# Altium footprint library Passives.PcbLib: 81 footprints (part 6 of 6)
Each footprint in its own frame and in the unit in brackets; x right, y up, seen from the top. Pads: shape width x height; smd on the part's side, far side on the other; paste and mask are expansions set on the pad; w line width, h text height; cw(c..) or ccw(c..) is an arc to the next point about the centre after c.
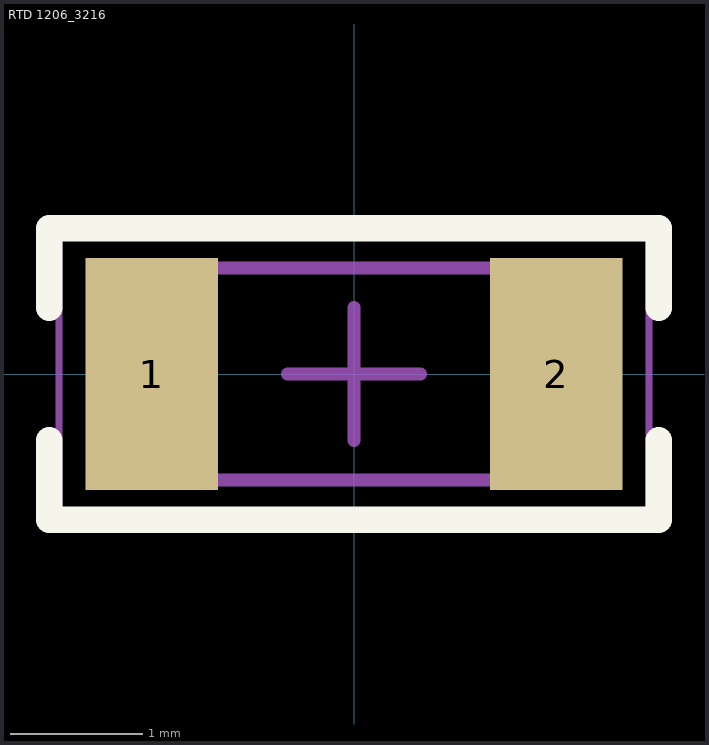
[diagram p5: the footprint, top view; thin cyan lines are the x and y axes]

## RTD 1206_3216 [mm] "100 Ohms RTD Platinum ±0.3% ±3850ppm/°C -50°C ~ 130°C, 2-Leads, Body 3.20x1.60mm, IPC Medium Density"
height 0.6
pads (2):
  rect 1x1.75 smd: 1(-1.525,0) 2(1.525,0)
Top Overlay:
  lines w0.2: -2.3,-0.5 -2.3,-1.1 2.3,-1.1 2.3,-0.5 ; -2.3,0.5 -2.3,1.1 2.3,1.1 2.3,0.5
Mechanical 13:
  lines w0.1: -1.6,-0.8 -1.6,0.8 1.6,0.8 1.6,-0.8 -1.6,-0.8
Mechanical 15:
  lines w0.05: -2.225,-1.075 -2.225,1.075 2.225,1.075 2.225,-1.075 -2.225,-1.075
  lines w0.1: -0.5,0 0.5,0 ; 0,-0.5 0,0.5
3D body "RTD 1206_3216.step": height 0.6, standoff 0, extent -1.6,-0.8 1.6,0.8